# Altium schematic symbol library CrystalOscillators.SchLib: 3 symbols
Pins are listed as number, name and electrical type; pins without a type are passive.

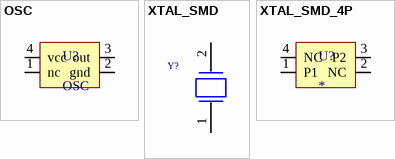
[diagram p0: symbols OSC to XTAL_SMD_4P]

## OSC
designator U?
footprint LC-SMD-3225_4P
pins: 1 nc, 2 gnd, 3 out, 4 vcc

## XTAL_SMD
designator Y?  (value not drawn)
PCB DECAL: XTAL_SMD
footprint HC_49SMD
footprint LC-SMD-5032_2P
footprint LC-SMD-3225_4P
pins: 1, 2

## XTAL_SMD_4P
designator U?
value: *
footprint LC-SMD-3225_4P
pins: 1 P1, 2 NC, 3 P2, 4 NC